# EAGLE library part PSOC_4000 (library stovelite)
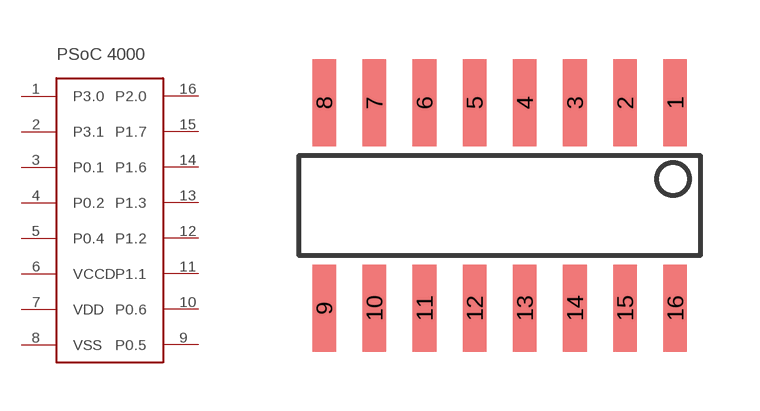
[diagram p0: symbol with the pads of SOIC16; footprint SOIC16]

Designator prefix -

## PSOC_4000  [SOIC16]
1  P3.0
2  P3.1
3  P0.1
4  P0.2
5  P0.4
6  VCCD
7  VDD
8  VSS
9  P0.5
10  P0.6
11  P1.1
12  P1.2
13  P1.3
14  P1.6
15  P1.7
16  P2.0

## Footprint SOIC16 (pad centres in mm)
smd 0.6 x 2.2: 1 4.445,2.6; 2 3.175,2.6; 3 1.905,2.6; 4 0.635,2.6; 5 -0.635,2.6; 6 -1.905,2.6; 7 -3.175,2.6; 8 -4.445,2.6; 9 -4.445,-2.6; 10 -3.175,-2.6; 11 -1.905,-2.6; 12 -0.635,-2.6; 13 0.635,-2.6; 14 1.905,-2.6; 15 3.175,-2.6; 16 4.445,-2.6